# Altium footprint library SDI1521L.PcbLib: 1 footprints
Each footprint in its own frame and in the unit in brackets; x right, y up, seen from the top. Pads: shape width x height; smd on the part's side, far side on the other; paste and mask are expansions set on the pad; w line width, h text height; cw(c..) or ccw(c..) is an arc to the next point about the centre after c.
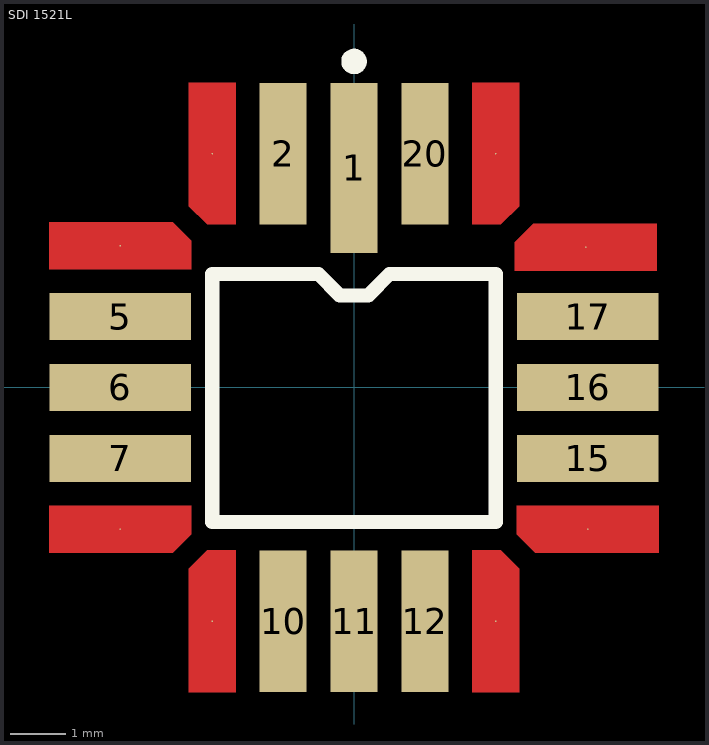
[diagram p0: the footprint, top view; thin cyan lines are the x and y axes]

## SDI 1521L [mm]
pads (20):
  rect 0.84x3.05 smd mask+0.102: 1(0,3.935)
  rect 0.84x2.54 smd mask+0.102: 2(-1.27,4.19) 10(-1.27,-4.19) 11(0,-4.19) 12(1.27,-4.19) 20(1.27,4.19)
  round 0.025 smd mask+0.102: 3(-2.54,4.191) 4(-4.19,2.54) 8(-4.191,-2.54) 9(-2.54,-4.191) 13(2.54,-4.191) 14(4.191,-2.54) 18(4.154,2.515) 19(2.54,4.191)
  rect 2.54x0.84 smd mask+0.102: 5(-4.19,1.27) 6(-4.19,0) 7(-4.19,-1.27) 15(4.19,-1.27) 16(4.19,0) 17(4.19,1.27)
Top Layer:
  region: -2.12,-5.461 -2.96,-5.461 -2.96,-3.251 -2.63,-2.921 -2.12,-2.921
  region: -5.461,-2.12 -5.461,-2.96 -3.251,-2.96 -2.921,-2.63 -2.921,-2.12
  region: -2.12,5.461 -2.96,5.461 -2.96,3.251 -2.63,2.921 -2.12,2.921
  region: -5.46,2.12 -5.46,2.96 -3.25,2.96 -2.92,2.63 -2.92,2.12
  region: 2.12,5.461 2.96,5.461 2.96,3.251 2.63,2.921 2.12,2.921
  region: 5.424,2.095 5.424,2.935 3.214,2.935 2.884,2.604 2.884,2.095
  region: 5.461,-2.12 5.461,-2.96 3.251,-2.96 2.921,-2.63 2.921,-2.12
  region: 2.12,-5.461 2.96,-5.461 2.96,-3.251 2.63,-2.921 2.12,-2.921
Top Overlay:
  circle w0.254: c0,5.842 r0.102
  lines w0.254: -2.54,-2.413 -2.54,2.032 -1.27,2.032 -0.635,2.032 -0.254,1.651 0.254,1.651 0.635,2.032 1.27,2.032 2.54,2.032 2.54,-2.413 -2.54,-2.413